# Altium schematic symbol library 2EDL23N06PJ.SchLib: 1 symbol
Pins are listed as number, name and electrical type; pins without a type are passive.

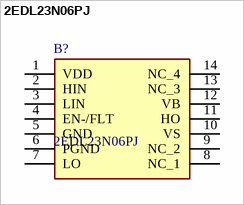
[diagram p0: symbol 2EDL23N06PJ]

## 2EDL23N06PJ
designator B?
Infineon 2EDL23N06PJ, MOSFET Power Driver; Geometry.Height: 1.75mm; Manufacturer_Name: Infineon; Manufacturer_Part_Number: 2EDL23N06PJ; Mouser Part Number: 726-2EDL23N06PJ; Mouser Price/Stock: https://www.mouser.co.uk/ProductDetail/Infineon-Technologies/2EDL23N06PJ?qs=61g%252BPyeGH21MM1hsJUEj5A%3D%3D; Arrow Part Number: *; Arrow Price/Stock: *; Datasheet Link: https://www.mouser.in/datasheet/2/196/Infineon_2EDL23x06xx_DataSheet_v02_08_EN-776784.pdf
footprint SOIC127P600X175-14N
pins: 1 VDD, 2 HIN, 3 LIN, 4 EN-/FLT, 5 GND, 6 PGND, 7 LO, 8 NC_1, 9 NC_2, 10 VS, 11 HO, 12 VB, 13 NC_3, 14 NC_4